# EAGLE library part BSC093N04LSGATMA1 (library BSC093N04LSGATMA1)
INFINEON - BSC093N04LSGATMA1 - MOSFET, N CH, 49A, 40V, PG-TDSON-8 Source: Datasheet <https://www.infineon.com/dgdl/Infineon-BSC093N04LSG-DS-v02_01-en.pdf?fileId=db3a30431689f4420116c44a1fa80822>
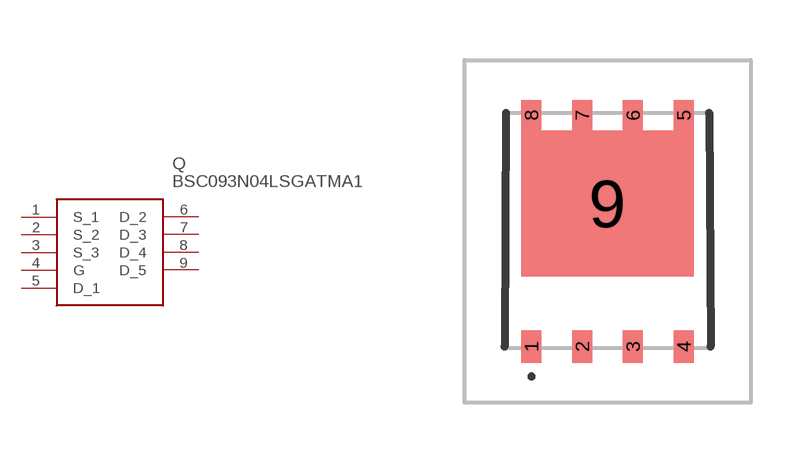
[diagram p0: symbol with the pads of BSC340N08NS3G; footprint BSC340N08NS3G]

Designator prefix Q

## BSC093N04LSGATMA1 (Description: INFINEON - BSC093N04LSGATMA1 - MOSFET, N CH, 49A, 40V, PG-TDSON-8; Height: 1mm; Manufacturer_Name: Infineon; Manufacturer_Part_Number: BSC093N04LSGATMA1; Mouser_Part_Number: 726-BSC093N04LSGATMA; Mouser_Price-Stock: https://www.mouser.co.uk/ProductDetail/Infineon-Technologies/BSC093N04LSGATMA1?qs=K00xGehIljvqz%2F%2Fk43Bdgg%3D%3D)  [BSC340N08NS3G]
1  S_1
2  S_2
3  S_3
4  G
5  D_1
6  D_2
7  D_3
8  D_4
9  D_5

## Footprint BSC340N08NS3G (pad centres in mm)
PG-TDSON-8-5 | SuperSO8 5x6
smd 0.5 x 0.815: 1 -1.905,-2.9; 2 -0.635,-2.9; 3 0.635,-2.9; 4 1.905,-2.9
smd 0.5 x 0.765: 5 1.905,2.888; 6 0.635,2.888; 7 -0.635,2.888; 8 -1.905,2.888
smd 4.31 x 3.655: 9 0,0.678